# EAGLE library part LM358DR2G (library Common-Parts-Library-Eagle)
LM Series 0.6 V/us 32 V SMT Single Supply Quad Operational Amplifier - SOIC-8
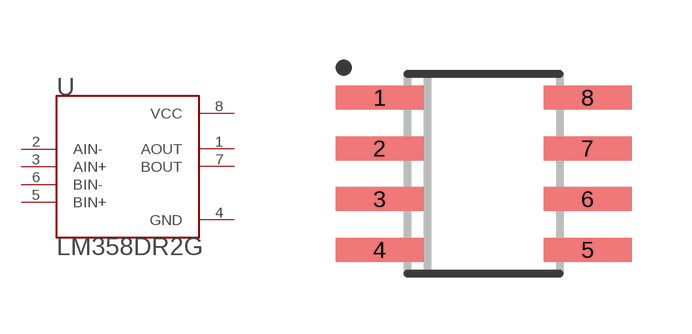
[diagram p75: symbol with the pads of LM358DR2G_SOIC127P600X175-8N; footprint LM358DR2G_SOIC127P600X175-8N]

Designator prefix U

## LM358DR2G (MANUFACTURER: ON Semiconductor)  [LM358DR2G_SOIC127P600X175-8N]
1  AOUT  out
2  AIN-  in
3  AIN+  in
4  GND  pas
5  BIN+  in
6  BIN-  in
7  BOUT  out
8  VCC  pwr

## Footprint LM358DR2G_SOIC127P600X175-8N (pad centres in mm)
smd 2.2 x 0.6: 1 -2.6,1.905; 2 -2.6,0.635; 3 -2.6,-0.635; 4 -2.6,-1.905; 5 2.6,-1.905; 6 2.6,-0.635; 7 2.6,0.635; 8 2.6,1.905